# EAGLE library part B10B-XASK-1_LF__SN_ (library B10B-XASK-1_LF__SN_)
Connector Header Through Hole position 0.098" (2.50mm) Source: Datasheet <https://datasheet.datasheetarchive.com/originals/dk/DKDS41/DSANUWW0025348.pdf>
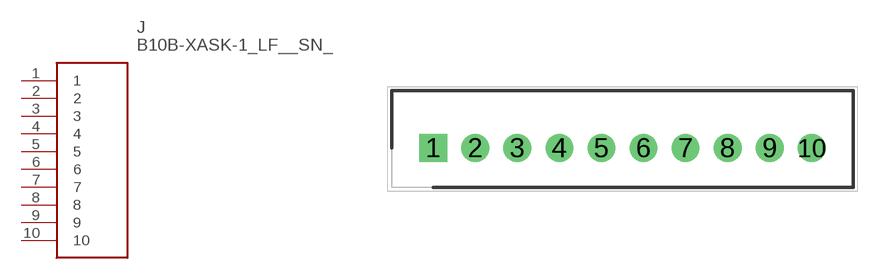
[diagram p0: symbol with the pads of SHDR10W64P0X250_1X10_2740X575X; footprint SHDR10W64P0X250_1X10_2740X575X]

Designator prefix J

## B10B-XASK-1_LF__SN_ (Description: Connector Header Through Hole position 0.098" (2.50mm); Height: 7mm; Manufacturer_Name: JST (JAPAN SOLDERLESS TERMINALS); Manufacturer_Part_Number: B10B-XASK-1(LF)(SN))  [SHDR10W64P0X250_1X10_2740X575X]
1  1
2  2
3  3
4  4
5  5
6  6
7  7
8  8
9  9
10  10

## Footprint SHDR10W64P0X250_1X10_2740X575X (pad centres in mm)
B10B-XH-A(LF)(SN)-
drill 1.1 pad 1.65 square: 1 0,0
drill 1.1 pad 1.65: 2 2.5,0; 3 5,0; 4 7.5,0; 5 10,0; 6 12.5,0; 7 15,0; 8 17.5,0; 9 20,0; 10 22.5,0